# Altium footprint library relay.PCBLIB: 291 footprints (part 11 of 19)
Each footprint in its own frame and in the unit in brackets; x right, y up, seen from the top. Pads: shape width x height; smd on the part's side, far side on the other; paste and mask are expansions set on the pad; w line width, h text height; cw(c..) or ccw(c..) is an arc to the next point about the centre after c.
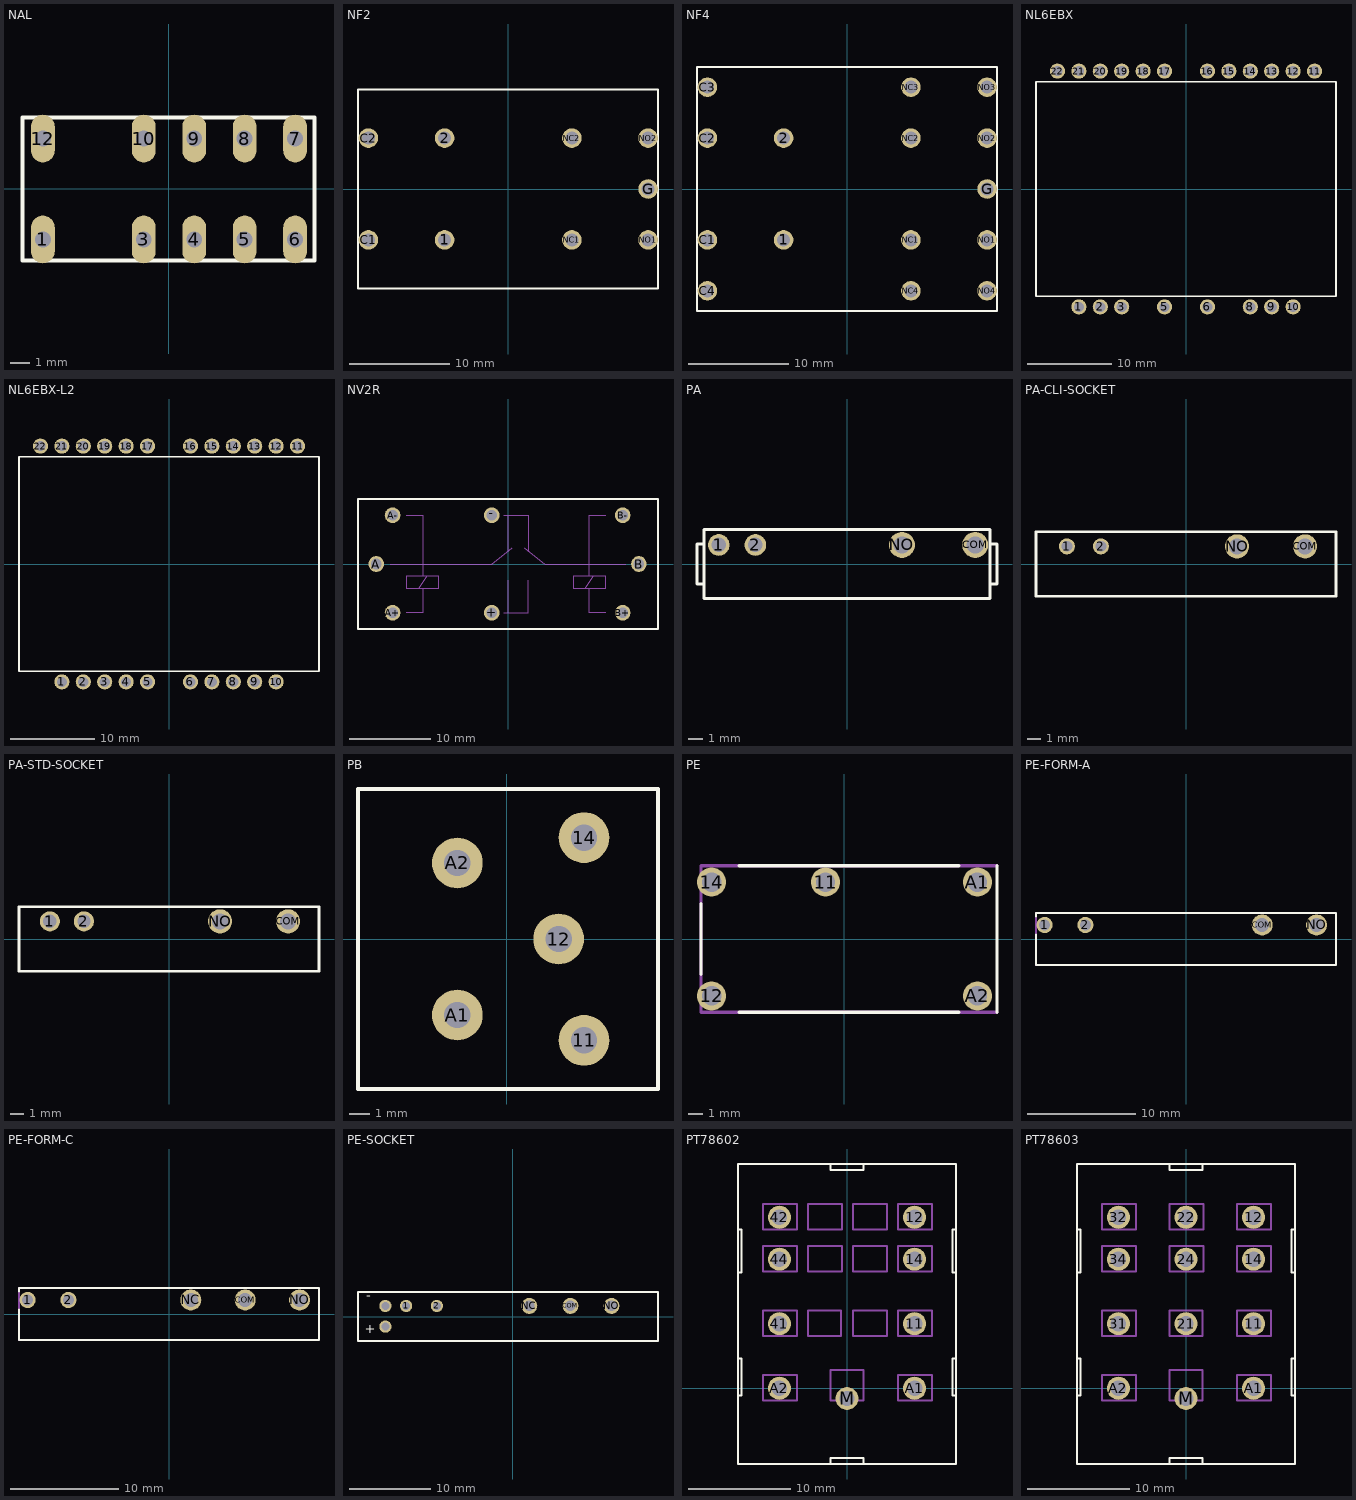
[diagram p10: the footprints below, top view; thin cyan lines are the x and y axes]

## NAL [mil]
pads (10):
  oval 47.25x94.5 hole 31.5: 1(-250,-100) 3(-50,-100) 4(50,-100) 5(150,-100) 6(250,-100) 7(250,100) 8(150,100) 9(50,100) 10(-50,100) 12(-250,100)
Top Overlay:
  lines w8: -290.16,-141.73 288.58,-141.73 288.58,141.73 -290.16,141.73 -290.16,-141.73

## NF2 [mil]
pads (9):
  round 76.77 hole 51.18: 1(-250,-200) 2(-250,200) C1(-550,-200) C2(-550,200) G(550,0) NC1(250,-200) NC2(250,200) NO1(550,-200) NO2(550,200)
Top Overlay:
  lines w8: -590.55,-390.94 588.58,-390.94 588.58,390.94 -590.55,390.94 -590.55,-390.94

## NF4 [mil]
pads (15):
  round 76.77 hole 51.18: 1(-250,-200) 2(-250,200) C1(-550,-200) C2(-550,200) C3(-550,400) C4(-550,-400) G(550,0) NC1(250,-200) NC2(250,200) NC3(250,400) NC4(250,-400) NO1(550,-200) NO2(550,200) NO3(550,400) NO4(550,-400)
Top Overlay:
  lines w8: -590.55,-479.13 588.58,-479.13 588.58,479.13 -590.55,479.13 -590.55,-479.13

## NL6EBX [mil]
pads (20):
  round 70.86 hole 47.24: 1(-500,-550) 2(-400,-550) 3(-300,-550) 5(-100,-550) 6(100,-550) 8(300,-550) 9(400,-550) 10(500,-550) 11(600,550) 12(500,550) 13(400,550) 14(300,550) 15(200,550) 16(100,550) 17(-100,550) 18(-200,550) 19(-300,550) 20(-400,550) 21(-500,550) 22(-600,550)
Top Overlay:
  lines w8: -700,-500 700,-500 700,500 -700,500 -700,-500

## NL6EBX-L2 [mil]
pads (22):
  round 70.86 hole 47.24: 1(-500,-550) 2(-400,-550) 3(-300,-550) 4(-200,-550) 5(-100,-550) 6(100,-550) 7(200,-550) 8(300,-550) 9(400,-550) 10(500,-550) 11(600,550) 12(500,550) 13(400,550) 14(300,550) 15(200,550) 16(100,550) 17(-100,550) 18(-200,550) 19(-300,550) 20(-400,550) 21(-500,550) 22(-600,550)
Top Overlay:
  lines w8: -700,-500 700,-500 700,500 -700,500 -700,-500

## NV2R [mil]
pads (8):
  round 76 hole 51.18: +(-78.74,-236.22) -(-78.74,236.22) A(-637.8,0) A+(-559.06,-236.22) A-(-559.06,236.22) B(633.86,0) B+(555.12,-236.22) B-(555.12,236.22)
Top Overlay:
  lines w8: -726.38,-314.96 726.38,-314.96 726.38,314.96 -726.38,314.96 -726.38,-314.96
Mechanical 16:
  lines w4: -570.87,0 -78.74,0 19.69,78.74 ; -492.13,-236.22 -413.39,-236.22 -413.39,-118.11 ; -492.13,236.22 -413.39,236.22 -413.39,-59.06 ; -19.69,-236.22 0,-236.22 ; -19.69,236.22 0,236.22 ; 0,-78.74 0,-236.22 ; 0,59.06 0,236.22 ; 78.74,78.74 177.17,0 570.87,0 ; 98.43,-78.74 98.43,-236.22 0,-236.22 ; 98.43,59.06 98.43,236.22 0,236.22 ; 472.44,-236.22 393.7,-236.22 393.7,-118.11 ; 472.44,236.22 393.7,236.22 393.7,-59.06 ; -433.07,-118.11 -492.13,-118.11 -492.13,-59.06 -413.39,-59.06 ; -433.07,-118.11 -413.39,-118.11 ; -433.07,-118.11 -393.7,-59.06 ; -413.39,-118.11 -334.65,-118.11 -334.65,-59.06 -393.7,-59.06 ; -413.39,-59.06 -393.7,-59.06 ; 374.02,-118.11 314.96,-118.11 314.96,-59.06 393.7,-59.06 ; 374.02,-118.11 393.7,-118.11 ; 374.02,-118.11 413.39,-59.06 ; 393.7,-118.11 472.44,-118.11 472.44,-59.06 413.39,-59.06 ; 393.7,-59.06 413.39,-59.06

## PA [mm]
pads (4):
  round 1.5 hole 1: 1(-8.89,1.32) 2(-6.35,1.32)
  round 1.8 hole 1.2: COM(8.89,1.32) NO(3.81,1.32)
Top Overlay:
  lines w0.203: -9.9,-1.4 -10.4,-1.4 -10.4,1.4 -9.9,1.4 ; 9.9,-1.4 9.9,1.4 ; 9.9,-1.4 9.9,-2.4 -9.9,-2.4 -9.9,2.4 9.9,2.4 9.9,1.4 ; 9.9,-1.4 10.4,-1.4 10.4,1.4 9.9,1.4

## PA-CLI-SOCKET [mil]
pads (4):
  round 47.25 hole 31.5: 1(-350,51.97) 2(-250,51.97)
  round 70.86 hole 47.24: COM(350,51.97) NO(150,51.97)
Top Overlay:
  lines w8: -440.94,-94.49 440.94,-94.49 440.94,94.49 -440.94,94.49 -440.94,-94.49

## PA-STD-SOCKET [mm]
pads (4):
  round 1.5 hole 1: 1(-8.89,1.32) 2(-6.35,1.32)
  round 1.8 hole 1.2: COM(8.89,1.32) NO(3.81,1.32)
Top Overlay:
  lines w0.203: -11.2,-2.4 11.2,-2.4 11.2,2.4 -11.2,2.4 -11.2,-2.4

## PB [mm]
pads (5):
  round 2.5 hole 1.3: 11(3.81,-5) 12(2.56,0) 14(3.81,5) A1(-2.44,-3.75) A2(-2.44,3.75)
Top Overlay:
  lines w0.203: -7.34,-7.4 7.46,-7.4 7.46,7.4 -7.34,7.4 -7.34,-7.4

## PE [mil]
pads (5):
  round 76.77 hole 51.18: 11(-50,150) 12(-350,-150) 14(-350,150) A1(350,150) A2(350,-150)
Top Overlay:
  lines w8: -377.95,-92.91 -377.95,92.91 ; -277.95,-192.91 301.57,-192.91 ; -277.95,192.91 301.57,192.91 ; 401.57,-192.91 401.57,192.91
Mechanical 16:
  lines w8: 401.57,-192.91 -377.95,-192.91 -377.95,192.91 401.57,192.91

## PE-FORM-A [mm]
pads (4):
  round 1.5 hole 1: 1(-13.1,1.3) 2(-9.32,1.3)
  round 1.95 hole 1.3: COM(7.06,1.3) NO(12.1,1.3)
Top Overlay:
  lines w0.203: -13.9,0.4 -13.9,-2.4 13.9,-2.4 13.9,2.4 -13.9,2.4 -13.9,2.1
Mechanical 16:
  lines w0.203: -13.9,-2.4 -13.9,2.15 -13.9,2.4

## PE-FORM-C [mm]
pads (5):
  round 1.5 hole 1: 1(-13.1,1.3) 2(-9.32,1.3)
  round 1.95 hole 1.3: COM(7.06,1.3) NC(2.02,1.3) NO(12.1,1.3)
Top Overlay:
  lines w0.203: -13.9,0.4 -13.9,-2.4 13.9,-2.4 13.9,2.4 -13.9,2.4 -13.9,2.1
Mechanical 16:
  lines w0.203: -13.9,-2.4 -13.9,2.15 -13.9,2.4

## PE-SOCKET [mm]
pads (7):
  round 1.5 hole 1: 1(-13.1,1.3) 2(-9.32,1.3) +LED(-15.64,-1.24) -LED(-15.64,1.3)
  round 1.95 hole 1.3: COM(7.06,1.3) NC(2.02,1.3) NO(12.1,1.3)
Top Overlay:
  lines w0.203: -19,-3 17.8,-3 17.8,3 -19,3 -19,-3
  text "+" at -18.2,-2.5 h1.97
  text "-" at -18,1.65 h1.97

## PT78602 [mm]
pads (9):
  round 2.25 hole 1.5: 11(6.6,6.3) 12(6.6,16.7) 14(6.6,12.6) 41(-6.6,6.3) 42(-6.6,16.7) 44(-6.6,12.6) A1(6.6,0) A2(-6.6,0) M(0,-1)
Top Overlay:
  lines w0.203: -10.6,2.9 -10.3,2.9 -10.3,-0.7 -10.5,-0.7 ; -10.6,11.3 -10.3,11.3 -10.3,15.5 -10.6,15.5 ; -1.6,-7.3 -1.6,-6.8 1.6,-6.8 1.6,-7.3 ; -1.6,21.8 -1.6,21.3 1.6,21.3 1.6,21.8 ; 10.5,2.9 10.3,2.9 10.3,-0.7 10.6,-0.7 ; 10.5,15.5 10.3,15.5 10.3,11.3 10.6,11.3 ; -10.65,-7.4 10.65,-7.4 10.65,21.9 -10.65,21.9 -10.65,-7.4
Mechanical 16:
  lines w0.203: -8.2,-1.2 -4.9,-1.2 -4.9,1.3 -8.2,1.3 -8.2,-1.2 ; -8.2,5.1 -4.9,5.1 -4.9,7.6 -8.2,7.6 -8.2,5.1 ; -8.2,11.4 -4.9,11.4 -4.9,13.9 -8.2,13.9 -8.2,11.4 ; -8.2,15.5 -4.9,15.5 -4.9,18 -8.2,18 -8.2,15.5 ; -3.8,5.1 -0.6,5.1 -0.6,7.6 -3.8,7.6 -3.8,5.1 ; -3.8,11.4 -0.5,11.4 -0.5,13.9 -3.8,13.9 -3.8,11.4 ; -3.8,15.5 -0.5,15.5 -0.5,18 -3.8,18 -3.8,15.5 ; -1.6,-1.2 1.6,-1.2 1.6,1.8 -1.6,1.8 -1.6,-1.2 ; 0.6,5.1 3.9,5.1 3.9,7.6 0.6,7.6 0.6,5.1 ; 0.6,11.4 3.9,11.4 3.9,13.9 0.6,13.9 0.6,11.4 ; 0.6,15.5 3.9,15.5 3.9,18 0.6,18 0.6,15.5 ; 5,-1.2 8.3,-1.2 8.3,1.3 5,1.3 5,-1.2 ; 5,5.1 8.3,5.1 8.3,7.6 5,7.6 5,5.1 ; 5,11.4 8.3,11.4 8.3,13.9 5,13.9 5,11.4 ; 5,15.5 8.3,15.5 8.3,18 5,18 5,15.5

## PT78603 [mm]
pads (12):
  round 2.25 hole 1.5: 11(6.6,6.3) 12(6.6,16.7) 14(6.6,12.6) 21(0,6.3) 22(0,16.7) 24(0,12.6) 31(-6.6,6.3) 32(-6.6,16.7) 34(-6.6,12.6) A1(6.6,0) A2(-6.6,0) M(0,-1)
Top Overlay:
  lines w0.203: -10.6,2.9 -10.3,2.9 -10.3,-0.7 -10.5,-0.7 ; -10.6,11.3 -10.3,11.3 -10.3,15.5 -10.6,15.5 ; -1.6,-7.3 -1.6,-6.8 1.6,-6.8 1.6,-7.3 ; -1.6,21.8 -1.6,21.3 1.6,21.3 1.6,21.8 ; 10.5,2.9 10.3,2.9 10.3,-0.7 10.6,-0.7 ; 10.5,15.5 10.3,15.5 10.3,11.3 10.6,11.3 ; -10.65,-7.4 10.65,-7.4 10.65,21.9 -10.65,21.9 -10.65,-7.4
Mechanical 16:
  lines w0.203: -8.2,-1.2 -4.9,-1.2 -4.9,1.3 -8.2,1.3 -8.2,-1.2 ; -8.2,5.1 -4.9,5.1 -4.9,7.6 -8.2,7.6 -8.2,5.1 ; -8.2,11.4 -4.9,11.4 -4.9,13.9 -8.2,13.9 -8.2,11.4 ; -8.2,15.5 -4.9,15.5 -4.9,18 -8.2,18 -8.2,15.5 ; -1.6,-1.2 1.6,-1.2 1.6,1.8 -1.6,1.8 -1.6,-1.2 ; -1.6,5.1 1.6,5.1 1.6,7.6 -1.6,7.6 -1.6,5.1 ; -1.6,11.4 1.7,11.4 1.7,13.9 -1.6,13.9 -1.6,11.4 ; -1.6,15.5 1.7,15.5 1.7,18 -1.6,18 -1.6,15.5 ; 5,-1.2 8.3,-1.2 8.3,1.3 5,1.3 5,-1.2 ; 5,5.1 8.3,5.1 8.3,7.6 5,7.6 5,5.1 ; 5,11.4 8.3,11.4 8.3,13.9 5,13.9 5,11.4 ; 5,15.5 8.3,15.5 8.3,18 5,18 5,15.5